# Altium schematic symbol library AP22802AW5-7.Schlib: 1 symbol
Pins are listed as number, name and electrical type; pins without a type are passive.

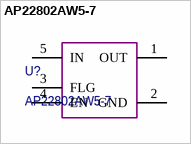
[diagram p0: symbol AP22802AW5-7]

## AP22802AW5-7
designator U?
pins: 1 OUT, 2 GND, 3 FLG, 4 EN, 5 IN